# EAGLE library part SM06B-SRSS-TB (library jst-sh)
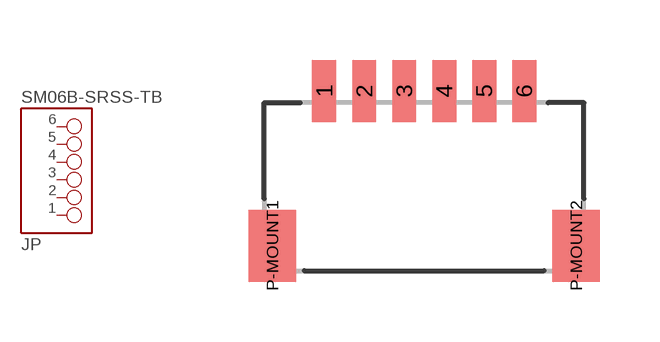
[diagram p0: symbol with the pads of SM06B-SRSS-TB; footprint SM06B-SRSS-TB]

Designator prefix JP

## SM06B-SRSS-TB  [SM06B-SRSS-TB]
1  P$1
2  P$2
3  P$3
4  P$4
5  P$5
6  P$6

## Footprint SM06B-SRSS-TB (pad centres in mm)
smd 0.6 x 1.55: 1 -2.5,0; 2 -1.5,0; 3 -0.5,0; 4 0.5,0; 5 1.5,0; 6 2.5,0
smd 1.2 x 1.8: P-MOUNT1 -3.8,-3.875; P-MOUNT2 3.8,-3.875